# EAGLE library part 74AUP2G14 (library IC & Transistor)
Low Power Dual Schmitt Trigger Inverter Created by: Wai Weng
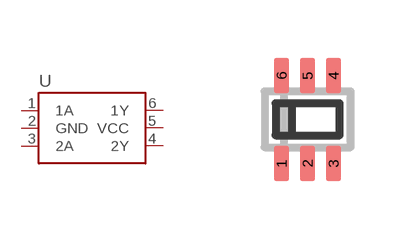
[diagram p33: symbol with the pads of SC-70-6; footprint SC-70-6]

Designator prefix U

## 74AUP2G14_(SC-70-6) (CYTRON-PC: S-IC-74AUP2G14-SC706; DESC: Low Power Dual Schmitt Trigger Inverter; MF: NXP; MPN: 74AUP2G14GW)  [SC-70-6]
1  1A
2  GND
3  2A
4  2Y
5  VCC
6  1Y

## Footprint SC-70-6 (pad centres in mm)
SC-70-6 SC-88 SOT363
smd 0.38 x 0.9: 1 -0.65,-1.1; 2 0,-1.1; 3 0.65,-1.1; 4 0.65,1.1; 5 0,1.1; 6 -0.65,1.1